# Altium schematic symbol library E4ELib.SchLib: 1 symbol
Pins are listed as number, name and electrical type; pins without a type are passive.

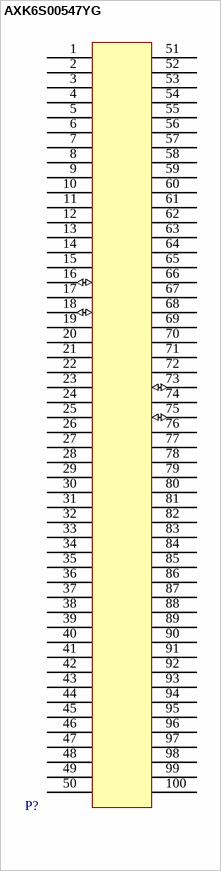
[diagram p0: symbol AXK6S00547YG]

## AXK6S00547YG
designator P?
100 Pin Connector
pins: 1 (power), 2 (power), 3 (power), 4 (power), 5 (power), 6 (power), 7 (power), 8 (power), 9 (power), 10 (power), 11, 12, 13, 14, 15, 16 (io), 17, 18 (io), 19, 20 (power), 21 (power), 22, 23, 24, 25, 26, 27, 28, 29, 30, 31, 32, 33 (power), 34, 35, 36, 37, 38, 39, 40, 41, 42, 43 (power), 44, 45, 46, 47, 48, 49, 50 (power), 51, 52, 53 (power), 54, 55, 56 (power), 57, 58, 59 (power), 60, 61, 62 (power), 63, 64, 65 (power), 66, 67, 68 (power), 69, 70, 71 (power), 72 (power), 73 (io), 74, 75 (io), 76, 77 (power), 78, 79, 80, 81, 82, 83 (power), 84, 85, 86, 87, 88, 89 (power), 90, 91, 92, 93, 94 (power), 95, 96, 97, 98, 99, 100